# Altium schematic symbol library TPS56220x.Schlib: 1 symbol
Pins are listed as number, name and electrical type; pins without a type are passive.

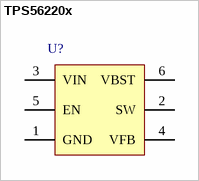
[diagram p0: symbol TPS56220x]

## TPS56220x
designator U?  (value not drawn)
Synchronous Step-Down Voltage Regulator
pins: 1 GND, 2 SW, 3 VIN, 4 VFB, 5 EN, 6 VBST